# EAGLE library part SIMII64 (library con-amp)
AMP connector
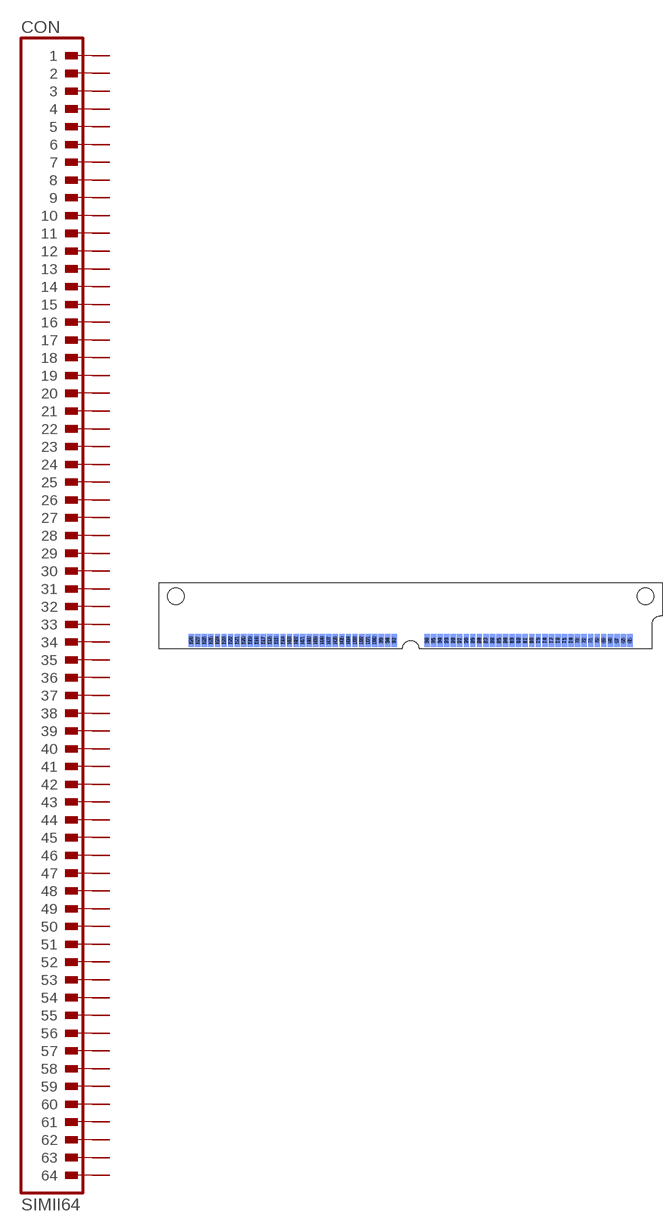
[diagram p22: symbol with the pads of SIMM64R; footprint SIMM64R]

Designator prefix CON

## SIMII64 (OC_FARNELL: unknown; OC_NEWARK: unknown)  [SIMM64R]
1  1  pas
2  2  pas
3  3  pas
4  4  pas
5  5  pas
6  6  pas
7  7  pas
8  8  pas
9  9  pas
10  10  pas
11  11  pas
12  12  pas
13  13  pas
14  14  pas
15  15  pas
16  16  pas
17  17  pas
18  18  pas
19  19  pas
20  20  pas
21  21  pas
22  22  pas
23  23  pas
24  24  pas
25  25  pas
26  26  pas
27  27  pas
28  28  pas
29  29  pas
30  30  pas
31  31  pas
32  32  pas
33  33  pas
34  34  pas
35  35  pas
36  36  pas
37  37  pas
38  38  pas
39  39  pas
40  40  pas
41  41  pas
42  42  pas
43  43  pas
44  44  pas
45  45  pas
46  46  pas
47  47  pas
48  48  pas
49  49  pas
50  50  pas
51  51  pas
52  52  pas
53  53  pas
54  54  pas
55  55  pas
56  56  pas
57  57  pas
58  58  pas
59  59  pas
60  60  pas
61  61  pas
62  62  pas
63  63  pas
64  64  pas
65  65  pas
66  66  pas
67  67  pas
68  68  pas
69  69  pas
70  70  pas
71  71  pas
72  72  pas
73  73  pas
74  74  pas
75  75  pas
76  76  pas
77  77  pas
78  78  pas
79  79  pas
80  80  pas
81  81  pas
82  82  pas
83  83  pas
84  84  pas
85  85  pas
86  86  pas
87  87  pas
88  88  pas
89  89  pas
90  90  pas
91  91  pas
92  92  pas
93  93  pas
94  94  pas
95  95  pas
96  96  pas
97  97  pas
98  98  pas
99  99  pas
100  100  pas
101  101  pas
102  102  pas
103  103  pas
104  104  pas
105  105  pas
106  106  pas
107  107  pas
108  108  pas
109  109  pas
110  110  pas
111  111  pas
112  112  pas
113  113  pas
114  114  pas
115  115  pas
116  116  pas
117  117  pas
118  118  pas
119  119  pas
120  120  pas
121  121  pas
122  122  pas
123  123  pas
124  124  pas
125  125  pas
126  126  pas
127  127  pas
128  128  pas

## Footprint SIMM64R (pad centres in mm)
SIMM II 64 Left Polarization
smd 1.041 x 2.54: 1 42.545,-8.636; 2 41.275,-8.636; 3 40.005,-8.636; 4 38.735,-8.636; 5 37.465,-8.636; 6 36.195,-8.636; 7 34.925,-8.636; 8 33.655,-8.636; 9 32.385,-8.636; 10 31.115,-8.636; 11 29.845,-8.636; 12 28.575,-8.636; 13 27.305,-8.636; 14 26.035,-8.636; 15 24.765,-8.636; 16 23.495,-8.636; 17 22.225,-8.636; 18 20.955,-8.636; 19 19.685,-8.636; 20 18.415,-8.636; 21 17.145,-8.636; 22 15.875,-8.636; 23 14.605,-8.636; 24 13.335,-8.636; 25 12.065,-8.636; 26 10.795,-8.636; 27 9.525,-8.636; 28 8.255,-8.636; 29 6.985,-8.636; 30 5.715,-8.636; 31 4.445,-8.636; 32 3.175,-8.636; 33 -3.175,-8.636; 34 -4.445,-8.636; 35 -5.715,-8.636; 36 -6.985,-8.636; 37 -8.255,-8.636; 38 -9.525,-8.636; 39 -10.795,-8.636; 40 -12.065,-8.636; 41 -13.335,-8.636; 42 -14.605,-8.636; 43 -15.875,-8.636; 44 -17.145,-8.636; 45 -18.415,-8.636; 46 -19.685,-8.636; 47 -20.955,-8.636; 48 -22.225,-8.636; 49 -23.495,-8.636; 50 -24.765,-8.636; 51 -26.035,-8.636; 52 -27.305,-8.636; 53 -28.575,-8.636; 54 -29.845,-8.636; 55 -31.115,-8.636; 56 -32.385,-8.636; 57 -33.655,-8.636; 58 -34.925,-8.636; 59 -36.195,-8.636; 60 -37.465,-8.636; 61 -38.735,-8.636; 62 -40.005,-8.636; 63 -41.275,-8.636; 64 -42.545,-8.636
smd 1.041 x 2.54 bottom: 65 42.545,-8.636; 66 41.275,-8.636; 67 40.005,-8.636; 68 38.735,-8.636; 69 37.465,-8.636; 70 36.195,-8.636; 71 34.925,-8.636; 72 33.655,-8.636; 73 32.385,-8.636; 74 31.115,-8.636; 75 29.845,-8.636; 76 28.575,-8.636; 77 27.305,-8.636; 78 26.035,-8.636; 79 24.765,-8.636; 80 23.495,-8.636; 81 22.225,-8.636; 82 20.955,-8.636; 83 19.685,-8.636; 84 18.415,-8.636; 85 17.145,-8.636; 86 15.875,-8.636; 87 14.605,-8.636; 88 13.335,-8.636; 89 12.065,-8.636; 90 10.795,-8.636; 91 9.525,-8.636; 92 8.255,-8.636; 93 6.985,-8.636; 94 5.715,-8.636; 95 4.445,-8.636; 96 3.175,-8.636; 97 -3.175,-8.636; 98 -4.445,-8.636; 99 -5.715,-8.636; 100 -6.985,-8.636; 101 -8.255,-8.636; 102 -9.525,-8.636; 103 -10.795,-8.636; 104 -12.065,-8.636; 105 -13.335,-8.636; 106 -14.605,-8.636; 107 -15.875,-8.636; 108 -17.145,-8.636; 109 -18.415,-8.636; 110 -19.685,-8.636; 111 -20.955,-8.636; 112 -22.225,-8.636; 113 -23.495,-8.636; 114 -24.765,-8.636; 115 -26.035,-8.636; 116 -27.305,-8.636; 117 -28.575,-8.636; 118 -29.845,-8.636; 119 -31.115,-8.636; 120 -32.385,-8.636; 121 -33.655,-8.636; 122 -34.925,-8.636; 123 -36.195,-8.636; 124 -37.465,-8.636; 125 -38.735,-8.636; 126 -40.005,-8.636; 127 -41.275,-8.636; 128 -42.545,-8.636
hole 3.175 at -45.517,0
hole 3.175 at 45.517,0